# Altium schematic symbol library kmilo17pet-TI_MSP430.SchLib: 1463 symbols (part 33 of 130)
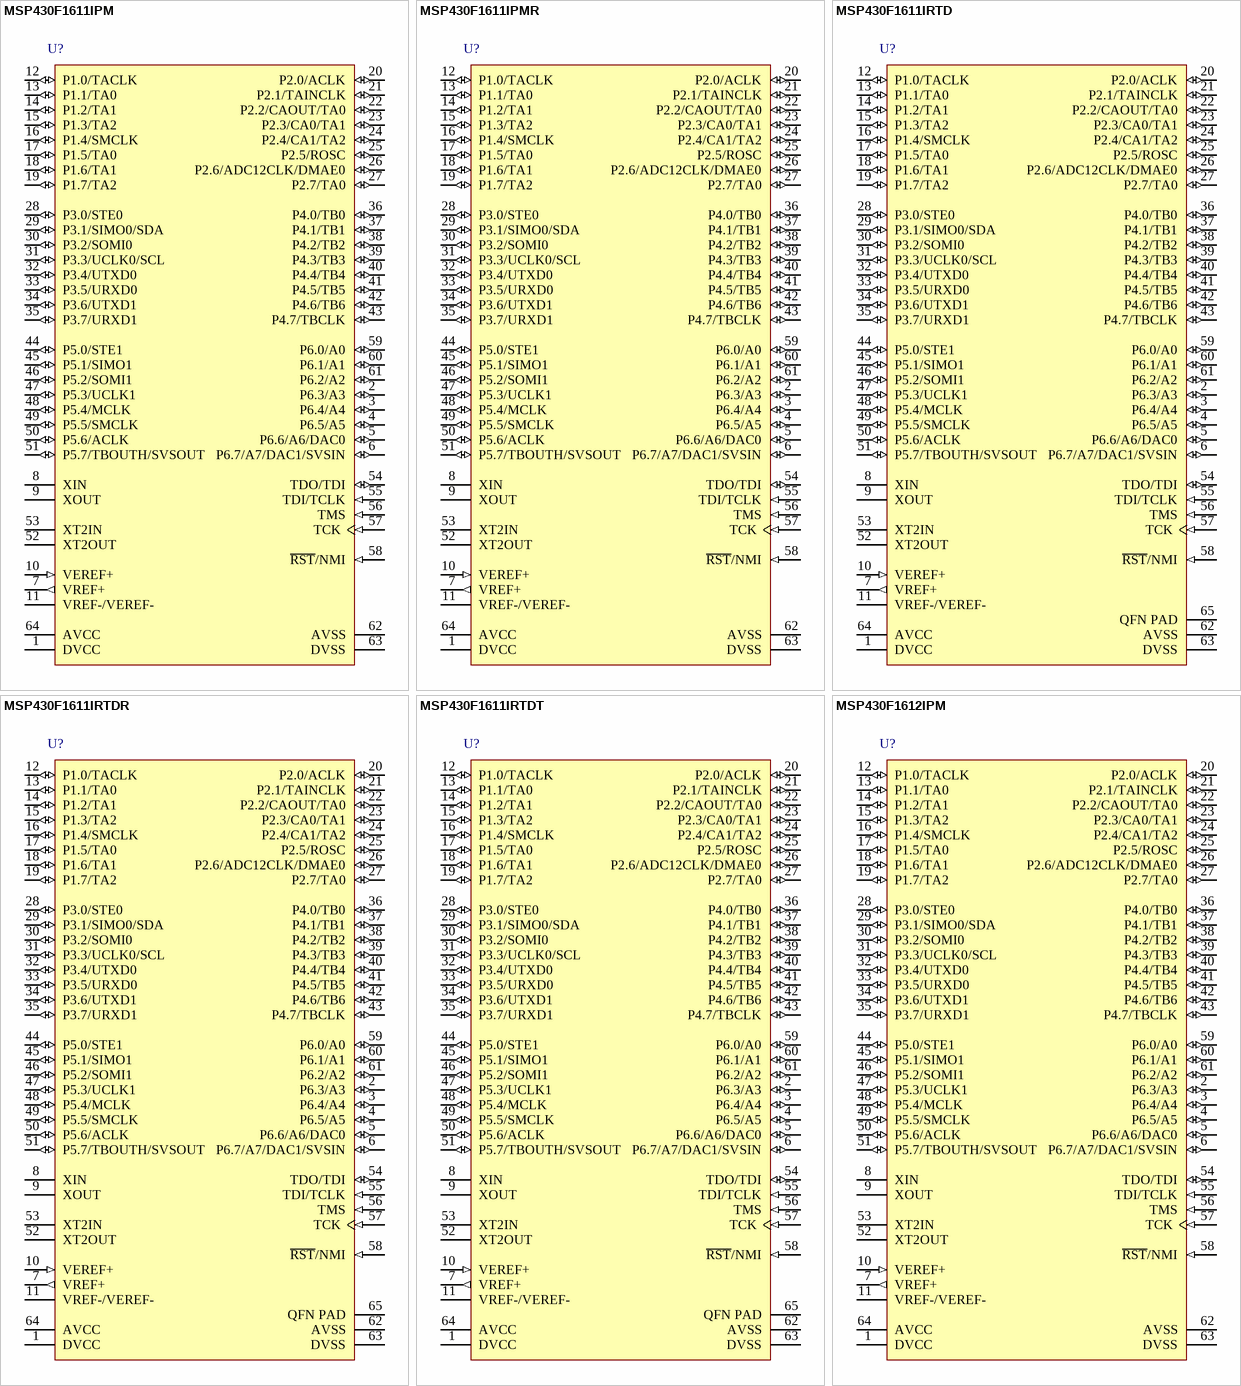
[diagram p253: symbols MSP430F1611IPM to MSP430F1612IPM]

## MSP430F1611IRTDR
designator U?
8 MHz Mixed Signal Microcontroller with 48 KB Flash, 10240 B SRAM and 48 GPIOs, -40 to 85 degC, 64-pin QFN (RTD), Green (RoHS & no Sb/Br); Manufacturer: Texas Instruments; PartNumber: MSP430F1611IRTDR; ADC: 12-bit SAR; ADC Channels: 8; Brown Out Reset: Yes; DAC: 1; DMA: 3; Flash(KB): 48; Multiplier: 16x16; SRAM(B): 10240; SubFamily: 1 Series; Timers - 16-bit: 2; USART: 2 with I, 2C; DatasheetVersion: SLAS368G; PackageReference: RTD64; PackageDescription: 64-Pin Plastic Flat Pack, Body 9 x 9 mm, Pitch 0.5 mm; Supplier 1: Mouser; Supplier Part Number 1: N/A; Comparators: Yes; Eco-Plan: Green (RoHS & no Sb/Br); Frequency(MHz): 8; GPIO: 48; SVS: Yes; Temp Sensor: Yes; Watchdog: Yes; Mounting Technology: Surface Mount; ComponentLink1Description: Manufacturer URL; ComponentLink1URL: http://www.ti.com/; ComponentLink2Description: Datasheet; ComponentLink2URL: http://www.ti.com/general/docs/lit/getliterature.tsp?genericPartNumber=MSP430F1611&fileType=pdf; ComponentLink3Description: Package Specification; ComponentLink3URL: http://www.ti.com/lit/ds/symlink/msp430f1471.pdf
footprint TI-RTD64-4700X4700TP_N (QFN, 64-Leads, Body 9x9mm, Pitch 0.5mm, Thermal Pad 4.7x4.7mm, IPC Medium Density)
pins: 1 DVCC (power) "Digital supply voltage, positive terminal. Supplies all digital parts.", 2 P6.3/A3 (io), 3 P6.4/A4 (io), 4 P6.5/A5 (io), 5 P6.6/A6/DAC0 (io), 6 P6.7/A7/DAC1/SVSIN (io), 7 VREF+ (out) "Output of positive terminal of the reference voltage in the ADC12", 8 XIN "Input port for crystal oscillator XT1. Standard or watch crystals can be connected.", 9 XOUT "Output terminal of crystal oscillator XT1", 10 VEREF+ (in) "Input for an external reference voltage", 11 VREF-/VEREF-, 12 P1.0/TACLK (io), 13 P1.1/TA0 (io), 14 P1.2/TA1 (io), 15 P1.3/TA2 (io), 16 P1.4/SMCLK (io), 17 P1.5/TA0 (io), 18 P1.6/TA1 (io), 19 P1.7/TA2 (io), 20 P2.0/ACLK (io), 21 P2.1/TAINCLK (io), 22 P2.2/CAOUT/TA0 (io), 23 P2.3/CA0/TA1 (io), 24 P2.4/CA1/TA2 (io), 25 P2.5/ROSC (io), 26 P2.6/ADC12CLK/DMAE0 (io), 27 P2.7/TA0 (io), 28 P3.0/STE0 (io), 29 P3.1/SIMO0/SDA (io), 30 P3.2/SOMI0 (io), 31 P3.3/UCLK0/SCL (io), 32 P3.4/UTXD0 (io), 33 P3.5/URXD0 (io), 34 P3.6/UTXD1 (io), 35 P3.7/URXD1 (io), 36 P4.0/TB0 (io), 37 P4.1/TB1 (io), 38 P4.2/TB2 (io), 39 P4.3/TB3 (io), 40 P4.4/TB4 (io), 41 P4.5/TB5 (io), 42 P4.6/TB6 (io), 43 P4.7/TBCLK (io), 44 P5.0/STE1 (io), 45 P5.1/SIMO1 (io), 46 P5.2/SOMI1 (io), 47 P5.3/UCLK1 (io), 48 P5.4/MCLK (io), 49 P5.5/SMCLK (io), 50 P5.6/ACLK (io), 51 P5.7/TBOUTH/SVSOUT (io), 52 XT2OUT "Output terminal of crystal oscillator XT2", 53 XT2IN "Input port for crystal oscillator XT2. Only standard crystals can be connected.", 54 TDO/TDI (io), 55 TDI/TCLK (in), 56 TMS (in) "Test mode select. TMS is used as an input port for device programming and test.", 57 TCK (in) "Test clock. TCK is the clock input port for device programming test and bootstrap loader start", 58 ~{RST}/NMI (in), 59 P6.0/A0 (io), 60 P6.1/A1 (io), 61 P6.2/A2 (io), 62 AVSS (power) "Analog supply voltage, negative terminal. Supplies only the analog portion of ADC12 and DAC12.", 63 DVSS (power) "Digital supply voltage, negative terminal. Supplies all digital parts.", 64 AVCC (power) "Analog supply voltage, positive terminal. Supplies only the analog portion of ADC12 and DAC12", 65 QFN PAD (power) "QFN package pad connection to DVSS recommended (RTD package only)"

## MSP430F1611IRTDT
designator U?
8 MHz Mixed Signal Microcontroller with 48 KB Flash, 10240 B SRAM and 48 GPIOs, -40 to 85 degC, 64-pin QFN (RTD), Green (RoHS & no Sb/Br); Manufacturer: Texas Instruments; PartNumber: MSP430F1611IRTDT; ADC: 12-bit SAR; ADC Channels: 8; Brown Out Reset: Yes; DAC: 1; DMA: 3; Flash(KB): 48; Multiplier: 16x16; SRAM(B): 10240; SubFamily: 1 Series; Timers - 16-bit: 2; USART: 2 with I, 2C; DatasheetVersion: SLAS368G; PackageReference: RTD64; PackageDescription: 64-Pin Plastic Flat Pack, Body 9 x 9 mm, Pitch 0.5 mm; Supplier 1: Digi-Key; Supplier Part Number 1: MSP430F1611IRTDR-ND; Supplier 2: Mouser; Supplier Part Number 2: 595-MSP430F1611IRTDR; Comparators: Yes; Eco-Plan: Green (RoHS & no Sb/Br); Frequency(MHz): 8; GPIO: 48; SVS: Yes; Temp Sensor: Yes; Watchdog: Yes; Mounting Technology: Surface Mount; ComponentLink1Description: Manufacturer URL; ComponentLink1URL: http://www.ti.com/; ComponentLink2Description: Datasheet; ComponentLink2URL: http://www.ti.com/general/docs/lit/getliterature.tsp?genericPartNumber=MSP430F1611&fileType=pdf; ComponentLink3Description: Package Specification; ComponentLink3URL: http://www.ti.com/lit/ds/symlink/msp430f1471.pdf
footprint TI-RTD64-4700X4700TP_N (QFN, 64-Leads, Body 9x9mm, Pitch 0.5mm, Thermal Pad 4.7x4.7mm, IPC Medium Density)
pins: 1 DVCC (power) "Digital supply voltage, positive terminal. Supplies all digital parts.", 2 P6.3/A3 (io), 3 P6.4/A4 (io), 4 P6.5/A5 (io), 5 P6.6/A6/DAC0 (io), 6 P6.7/A7/DAC1/SVSIN (io), 7 VREF+ (out) "Output of positive terminal of the reference voltage in the ADC12", 8 XIN "Input port for crystal oscillator XT1. Standard or watch crystals can be connected.", 9 XOUT "Output terminal of crystal oscillator XT1", 10 VEREF+ (in) "Input for an external reference voltage", 11 VREF-/VEREF-, 12 P1.0/TACLK (io), 13 P1.1/TA0 (io), 14 P1.2/TA1 (io), 15 P1.3/TA2 (io), 16 P1.4/SMCLK (io), 17 P1.5/TA0 (io), 18 P1.6/TA1 (io), 19 P1.7/TA2 (io), 20 P2.0/ACLK (io), 21 P2.1/TAINCLK (io), 22 P2.2/CAOUT/TA0 (io), 23 P2.3/CA0/TA1 (io), 24 P2.4/CA1/TA2 (io), 25 P2.5/ROSC (io), 26 P2.6/ADC12CLK/DMAE0 (io), 27 P2.7/TA0 (io), 28 P3.0/STE0 (io), 29 P3.1/SIMO0/SDA (io), 30 P3.2/SOMI0 (io), 31 P3.3/UCLK0/SCL (io), 32 P3.4/UTXD0 (io), 33 P3.5/URXD0 (io), 34 P3.6/UTXD1 (io), 35 P3.7/URXD1 (io), 36 P4.0/TB0 (io), 37 P4.1/TB1 (io), 38 P4.2/TB2 (io), 39 P4.3/TB3 (io), 40 P4.4/TB4 (io), 41 P4.5/TB5 (io), 42 P4.6/TB6 (io), 43 P4.7/TBCLK (io), 44 P5.0/STE1 (io), 45 P5.1/SIMO1 (io), 46 P5.2/SOMI1 (io), 47 P5.3/UCLK1 (io), 48 P5.4/MCLK (io), 49 P5.5/SMCLK (io), 50 P5.6/ACLK (io), 51 P5.7/TBOUTH/SVSOUT (io), 52 XT2OUT "Output terminal of crystal oscillator XT2", 53 XT2IN "Input port for crystal oscillator XT2. Only standard crystals can be connected.", 54 TDO/TDI (io), 55 TDI/TCLK (in), 56 TMS (in) "Test mode select. TMS is used as an input port for device programming and test.", 57 TCK (in) "Test clock. TCK is the clock input port for device programming test and bootstrap loader start", 58 ~{RST}/NMI (in), 59 P6.0/A0 (io), 60 P6.1/A1 (io), 61 P6.2/A2 (io), 62 AVSS (power) "Analog supply voltage, negative terminal. Supplies only the analog portion of ADC12 and DAC12.", 63 DVSS (power) "Digital supply voltage, negative terminal. Supplies all digital parts.", 64 AVCC (power) "Analog supply voltage, positive terminal. Supplies only the analog portion of ADC12 and DAC12", 65 QFN PAD (power) "QFN package pad connection to DVSS recommended (RTD package only)"

## MSP430F1612IPM
designator U?
8 MHz Mixed Signal Microcontroller with 55 KB Flash, 5120 B SRAM and 48 GPIOs, -40 to 85 degC, 64-pin QFP (PM), Green (RoHS & no Sb/Br); Manufacturer: Texas Instruments; PartNumber: MSP430F1612IPM; ADC: 12-bit SAR; ADC Channels: 8; Brown Out Reset: Yes; DAC: 1; DMA: 3; Flash(KB): 55; GPIO: 48; Multiplier: 16x16; SRAM(B): 5120; SubFamily: 1 Series; Timers - 16-bit: 2; USART: 2 with I, 2C; DatasheetVersion: SLAS368G; PackageVersion: 4040152/C; PackageReference: PM64; PackageDescription: 64-Pin Plastic Quad Flat Pack, Body 10 x 10 mm, Pitch 0.5 mm; Supplier 1: Digi-Key; Supplier Part Number 1: 296-18102-2-ND; Supplier 2: Digi-Key; Supplier Part Number 2: 296-18102-1-ND; Supplier 3: Digi-Key; Supplier Part Number 3: 296-18102-6-ND; Supplier 4: Farnell; Supplier Part Number 4: 1537172; Supplier 5: Newark; Supplier Part Number 5: 37K0624; Supplier 6: Mouser; Supplier Part Number 6: 595-MSP430F1611IRTDT; Comparators: Yes; Eco-Plan: Green (RoHS & no Sb/Br); Frequency(MHz): 8; SVS: Yes; Temp Sensor: Yes; Watchdog: Yes; Mounting Technology: Surface Mount; Code_JEDEC: MS-026; ComponentLink1Description: Manufacturer URL; ComponentLink1URL: http://www.ti.com/; ComponentLink2Description: Datasheet; ComponentLink2URL: http://www.ti.com/general/docs/lit/getliterature.tsp?genericPartNumber=MSP430F1612&fileType=pdf; ComponentLink3Description: Package Specification; ComponentLink3URL: http://www.ti.com/lit/ml/mtqf008a/mtqf008a.pdf
footprint TI-PM64_N (QFP, 64-Leads, Body 10x10mm, Pitch 0.5mm, IPC Medium Density)
pins: 1 DVCC (power) "Digital supply voltage, positive terminal. Supplies all digital parts.", 2 P6.3/A3 (io), 3 P6.4/A4 (io), 4 P6.5/A5 (io), 5 P6.6/A6/DAC0 (io), 6 P6.7/A7/DAC1/SVSIN (io), 7 VREF+ (out) "Output of positive terminal of the reference voltage in the ADC12", 8 XIN "Input port for crystal oscillator XT1. Standard or watch crystals can be connected.", 9 XOUT "Output terminal of crystal oscillator XT1", 10 VEREF+ (in) "Input for an external reference voltage", 11 VREF-/VEREF-, 12 P1.0/TACLK (io), 13 P1.1/TA0 (io), 14 P1.2/TA1 (io), 15 P1.3/TA2 (io), 16 P1.4/SMCLK (io), 17 P1.5/TA0 (io), 18 P1.6/TA1 (io), 19 P1.7/TA2 (io), 20 P2.0/ACLK (io), 21 P2.1/TAINCLK (io), 22 P2.2/CAOUT/TA0 (io), 23 P2.3/CA0/TA1 (io), 24 P2.4/CA1/TA2 (io), 25 P2.5/ROSC (io), 26 P2.6/ADC12CLK/DMAE0 (io), 27 P2.7/TA0 (io), 28 P3.0/STE0 (io), 29 P3.1/SIMO0/SDA (io), 30 P3.2/SOMI0 (io), 31 P3.3/UCLK0/SCL (io), 32 P3.4/UTXD0 (io), 33 P3.5/URXD0 (io), 34 P3.6/UTXD1 (io), 35 P3.7/URXD1 (io), 36 P4.0/TB0 (io), 37 P4.1/TB1 (io), 38 P4.2/TB2 (io), 39 P4.3/TB3 (io), 40 P4.4/TB4 (io), 41 P4.5/TB5 (io), 42 P4.6/TB6 (io), 43 P4.7/TBCLK (io), 44 P5.0/STE1 (io), 45 P5.1/SIMO1 (io), 46 P5.2/SOMI1 (io), 47 P5.3/UCLK1 (io), 48 P5.4/MCLK (io), 49 P5.5/SMCLK (io), 50 P5.6/ACLK (io), 51 P5.7/TBOUTH/SVSOUT (io), 52 XT2OUT "Output terminal of crystal oscillator XT2", 53 XT2IN "Input port for crystal oscillator XT2. Only standard crystals can be connected.", 54 TDO/TDI (io), 55 TDI/TCLK (in), 56 TMS (in) "Test mode select. TMS is used as an input port for device programming and test.", 57 TCK (in) "Test clock. TCK is the clock input port for device programming test and bootstrap loader start", 58 ~{RST}/NMI (in), 59 P6.0/A0 (io), 60 P6.1/A1 (io), 61 P6.2/A2 (io), 62 AVSS (power) "Analog supply voltage, negative terminal. Supplies only the analog portion of ADC12 and DAC12.", 63 DVSS (power) "Digital supply voltage, negative terminal. Supplies all digital parts.", 64 AVCC (power) "Analog supply voltage, positive terminal. Supplies only the analog portion of ADC12 and DAC12"

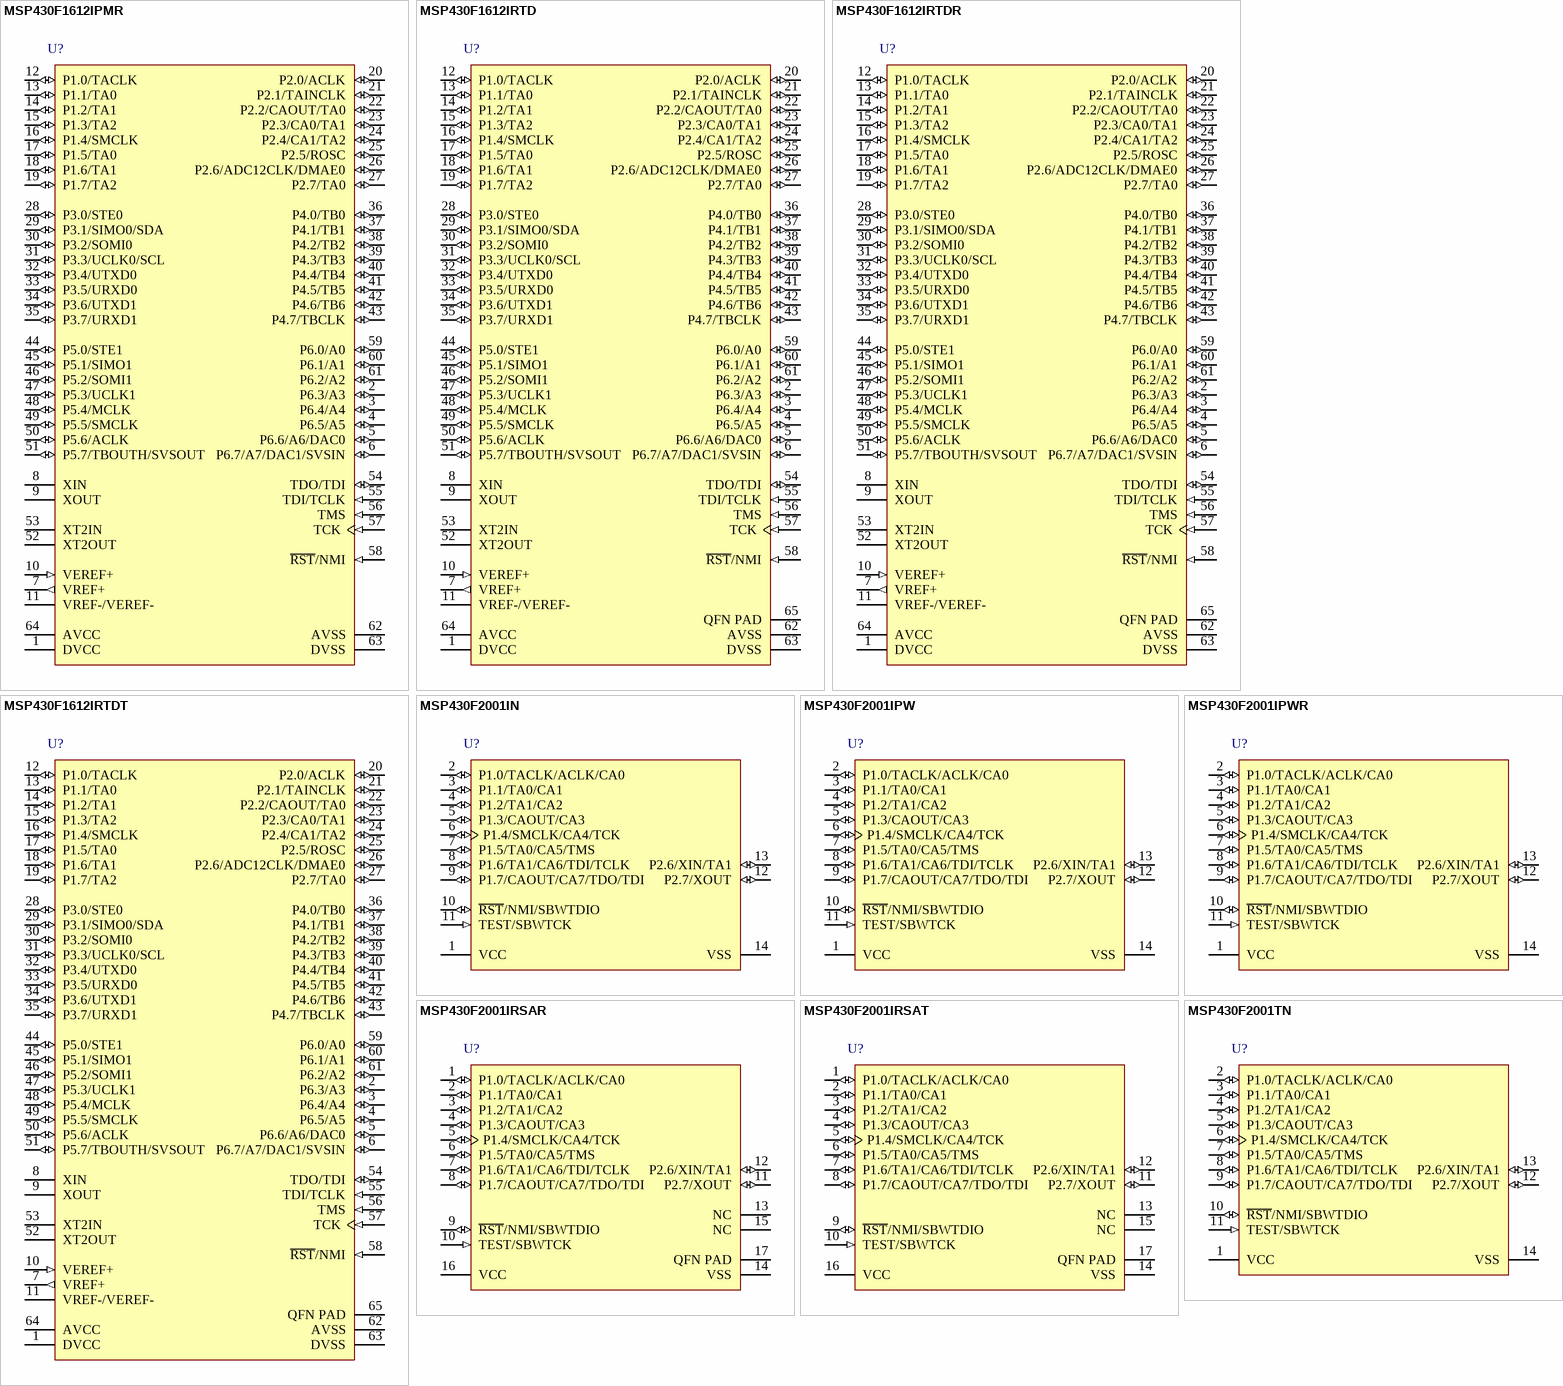
[diagram p47: symbols MSP430F1612IPMR to MSP430F2001TN]

## MSP430F1612IPMR
designator U?
8 MHz Mixed Signal Microcontroller with 55 KB Flash, 5120 B SRAM and 48 GPIOs, -40 to 85 degC, 64-pin QFP (PM), Green (RoHS & no Sb/Br); Manufacturer: Texas Instruments; PartNumber: MSP430F1612IPMR; ADC: 12-bit SAR; ADC Channels: 8; Brown Out Reset: Yes; DAC: 1; DMA: 3; Flash(KB): 55; GPIO: 48; Multiplier: 16x16; SRAM(B): 5120; SubFamily: 1 Series; Timers - 16-bit: 2; USART: 2 with I, 2C; DatasheetVersion: SLAS368G; PackageVersion: 4040152/C; PackageReference: PM64; PackageDescription: 64-Pin Plastic Quad Flat Pack, Body 10 x 10 mm, Pitch 0.5 mm; Supplier 1: Digi-Key; Supplier Part Number 1: 296-17885-ND; Supplier 2: Farnell; Supplier Part Number 2: 1172227; Supplier 3: Newark; Supplier Part Number 3: 19J7319; Supplier 4: Mouser; Supplier Part Number 4: 595-MSP430F1612IPM; Comparators: Yes; Eco-Plan: Green (RoHS & no Sb/Br); Frequency(MHz): 8; SVS: Yes; Temp Sensor: Yes; Watchdog: Yes; Mounting Technology: Surface Mount; Code_JEDEC: MS-026; ComponentLink1Description: Manufacturer URL; ComponentLink1URL: http://www.ti.com/; ComponentLink2Description: Datasheet; ComponentLink2URL: http://www.ti.com/general/docs/lit/getliterature.tsp?genericPartNumber=MSP430F1612&fileType=pdf; ComponentLink3Description: Package Specification; ComponentLink3URL: http://www.ti.com/lit/ml/mtqf008a/mtqf008a.pdf
footprint TI-PM64_N (QFP, 64-Leads, Body 10x10mm, Pitch 0.5mm, IPC Medium Density)
pins: 1 DVCC (power) "Digital supply voltage, positive terminal. Supplies all digital parts.", 2 P6.3/A3 (io), 3 P6.4/A4 (io), 4 P6.5/A5 (io), 5 P6.6/A6/DAC0 (io), 6 P6.7/A7/DAC1/SVSIN (io), 7 VREF+ (out) "Output of positive terminal of the reference voltage in the ADC12", 8 XIN "Input port for crystal oscillator XT1. Standard or watch crystals can be connected.", 9 XOUT "Output terminal of crystal oscillator XT1", 10 VEREF+ (in) "Input for an external reference voltage", 11 VREF-/VEREF-, 12 P1.0/TACLK (io), 13 P1.1/TA0 (io), 14 P1.2/TA1 (io), 15 P1.3/TA2 (io), 16 P1.4/SMCLK (io), 17 P1.5/TA0 (io), 18 P1.6/TA1 (io), 19 P1.7/TA2 (io), 20 P2.0/ACLK (io), 21 P2.1/TAINCLK (io), 22 P2.2/CAOUT/TA0 (io), 23 P2.3/CA0/TA1 (io), 24 P2.4/CA1/TA2 (io), 25 P2.5/ROSC (io), 26 P2.6/ADC12CLK/DMAE0 (io), 27 P2.7/TA0 (io), 28 P3.0/STE0 (io), 29 P3.1/SIMO0/SDA (io), 30 P3.2/SOMI0 (io), 31 P3.3/UCLK0/SCL (io), 32 P3.4/UTXD0 (io), 33 P3.5/URXD0 (io), 34 P3.6/UTXD1 (io), 35 P3.7/URXD1 (io), 36 P4.0/TB0 (io), 37 P4.1/TB1 (io), 38 P4.2/TB2 (io), 39 P4.3/TB3 (io), 40 P4.4/TB4 (io), 41 P4.5/TB5 (io), 42 P4.6/TB6 (io), 43 P4.7/TBCLK (io), 44 P5.0/STE1 (io), 45 P5.1/SIMO1 (io), 46 P5.2/SOMI1 (io), 47 P5.3/UCLK1 (io), 48 P5.4/MCLK (io), 49 P5.5/SMCLK (io), 50 P5.6/ACLK (io), 51 P5.7/TBOUTH/SVSOUT (io), 52 XT2OUT "Output terminal of crystal oscillator XT2", 53 XT2IN "Input port for crystal oscillator XT2. Only standard crystals can be connected.", 54 TDO/TDI (io), 55 TDI/TCLK (in), 56 TMS (in) "Test mode select. TMS is used as an input port for device programming and test.", 57 TCK (in) "Test clock. TCK is the clock input port for device programming test and bootstrap loader start", 58 ~{RST}/NMI (in), 59 P6.0/A0 (io), 60 P6.1/A1 (io), 61 P6.2/A2 (io), 62 AVSS (power) "Analog supply voltage, negative terminal. Supplies only the analog portion of ADC12 and DAC12.", 63 DVSS (power) "Digital supply voltage, negative terminal. Supplies all digital parts.", 64 AVCC (power) "Analog supply voltage, positive terminal. Supplies only the analog portion of ADC12 and DAC12"

## MSP430F1612IRTD
designator U?
8 MHz Mixed Signal Microcontroller with 55 KB Flash, 5120 B SRAM and 48 GPIOs, -40 to 85 degC, 64-pin QFN (RTD); Manufacturer: Texas Instruments; PartNumber: MSP430F1612IRTD; ADC: 12-bit SAR; ADC Channels: 8; Brown Out Reset: Yes; DAC: 1; DMA: 3; Flash(KB): 55; GPIO: 48; Multiplier: 16x16; SRAM(B): 5120; SubFamily: 1 Series; Timers - 16-bit: 2; USART: 2 with I, 2C; DatasheetVersion: SLAS368G; PackageReference: RTD64; PackageDescription: 64-Pin Plastic Flat Pack, Body 9 x 9 mm, Pitch 0.5 mm; Supplier 1: Digi-Key; Supplier Part Number 1: 296-31682-2-ND; Supplier 2: Digi-Key; Supplier Part Number 2: 296-31682-1-ND; Supplier 3: Digi-Key; Supplier Part Number 3: 296-31682-6-ND; Supplier 4: Newark; Supplier Part Number 4: 21J8847; Supplier 5: Mouser; Supplier Part Number 5: 595-MSP430F1612IPMR; Comparators: Yes; Frequency(MHz): 8; SVS: Yes; Temp Sensor: Yes; Watchdog: Yes; Mounting Technology: Surface Mount; ComponentLink1Description: Manufacturer URL; ComponentLink1URL: http://www.ti.com/; ComponentLink2Description: Datasheet; ComponentLink2URL: http://www.ti.com/general/docs/lit/getliterature.tsp?genericPartNumber=MSP430F1612&fileType=pdf; ComponentLink3Description: Package Specification; ComponentLink3URL: http://www.ti.com/lit/ds/symlink/msp430f1471.pdf
footprint TI-RTD64-4700X4700TP_N (QFN, 64-Leads, Body 9x9mm, Pitch 0.5mm, Thermal Pad 4.7x4.7mm, IPC Medium Density)
pins: 1 DVCC (power) "Digital supply voltage, positive terminal. Supplies all digital parts.", 2 P6.3/A3 (io), 3 P6.4/A4 (io), 4 P6.5/A5 (io), 5 P6.6/A6/DAC0 (io), 6 P6.7/A7/DAC1/SVSIN (io), 7 VREF+ (out) "Output of positive terminal of the reference voltage in the ADC12", 8 XIN "Input port for crystal oscillator XT1. Standard or watch crystals can be connected.", 9 XOUT "Output terminal of crystal oscillator XT1", 10 VEREF+ (in) "Input for an external reference voltage", 11 VREF-/VEREF-, 12 P1.0/TACLK (io), 13 P1.1/TA0 (io), 14 P1.2/TA1 (io), 15 P1.3/TA2 (io), 16 P1.4/SMCLK (io), 17 P1.5/TA0 (io), 18 P1.6/TA1 (io), 19 P1.7/TA2 (io), 20 P2.0/ACLK (io), 21 P2.1/TAINCLK (io), 22 P2.2/CAOUT/TA0 (io), 23 P2.3/CA0/TA1 (io), 24 P2.4/CA1/TA2 (io), 25 P2.5/ROSC (io), 26 P2.6/ADC12CLK/DMAE0 (io), 27 P2.7/TA0 (io), 28 P3.0/STE0 (io), 29 P3.1/SIMO0/SDA (io), 30 P3.2/SOMI0 (io), 31 P3.3/UCLK0/SCL (io), 32 P3.4/UTXD0 (io), 33 P3.5/URXD0 (io), 34 P3.6/UTXD1 (io), 35 P3.7/URXD1 (io), 36 P4.0/TB0 (io), 37 P4.1/TB1 (io), 38 P4.2/TB2 (io), 39 P4.3/TB3 (io), 40 P4.4/TB4 (io), 41 P4.5/TB5 (io), 42 P4.6/TB6 (io), 43 P4.7/TBCLK (io), 44 P5.0/STE1 (io), 45 P5.1/SIMO1 (io), 46 P5.2/SOMI1 (io), 47 P5.3/UCLK1 (io), 48 P5.4/MCLK (io), 49 P5.5/SMCLK (io), 50 P5.6/ACLK (io), 51 P5.7/TBOUTH/SVSOUT (io), 52 XT2OUT "Output terminal of crystal oscillator XT2", 53 XT2IN "Input port for crystal oscillator XT2. Only standard crystals can be connected.", 54 TDO/TDI (io), 55 TDI/TCLK (in), 56 TMS (in) "Test mode select. TMS is used as an input port for device programming and test.", 57 TCK (in) "Test clock. TCK is the clock input port for device programming test and bootstrap loader start", 58 ~{RST}/NMI (in), 59 P6.0/A0 (io), 60 P6.1/A1 (io), 61 P6.2/A2 (io), 62 AVSS (power) "Analog supply voltage, negative terminal. Supplies only the analog portion of ADC12 and DAC12.", 63 DVSS (power) "Digital supply voltage, negative terminal. Supplies all digital parts.", 64 AVCC (power) "Analog supply voltage, positive terminal. Supplies only the analog portion of ADC12 and DAC12", 65 QFN PAD (power) "QFN package pad connection to DVSS recommended (RTD package only)"

## MSP430F1612IRTDR
designator U?
8 MHz Mixed Signal Microcontroller with 55 KB Flash, 5120 B SRAM and 48 GPIOs, -40 to 85 degC, 64-pin QFN (RTD), Green (RoHS & no Sb/Br); Manufacturer: Texas Instruments; PartNumber: MSP430F1612IRTDR; ADC: 12-bit SAR; ADC Channels: 8; Brown Out Reset: Yes; DAC: 1; DMA: 3; Flash(KB): 55; GPIO: 48; Multiplier: 16x16; SRAM(B): 5120; SubFamily: 1 Series; Timers - 16-bit: 2; USART: 2 with I, 2C; DatasheetVersion: SLAS368G; PackageReference: RTD64; PackageDescription: 64-Pin Plastic Flat Pack, Body 9 x 9 mm, Pitch 0.5 mm; Supplier 1: Mouser; Supplier Part Number 1: N/A; Comparators: Yes; Eco-Plan: Green (RoHS & no Sb/Br); Frequency(MHz): 8; SVS: Yes; Temp Sensor: Yes; Watchdog: Yes; Mounting Technology: Surface Mount; ComponentLink1Description: Manufacturer URL; ComponentLink1URL: http://www.ti.com/; ComponentLink2Description: Datasheet; ComponentLink2URL: http://www.ti.com/general/docs/lit/getliterature.tsp?genericPartNumber=MSP430F1612&fileType=pdf; ComponentLink3Description: Package Specification; ComponentLink3URL: http://www.ti.com/lit/ds/symlink/msp430f1471.pdf
footprint TI-RTD64-4700X4700TP_N (QFN, 64-Leads, Body 9x9mm, Pitch 0.5mm, Thermal Pad 4.7x4.7mm, IPC Medium Density)
pins: 1 DVCC (power) "Digital supply voltage, positive terminal. Supplies all digital parts.", 2 P6.3/A3 (io), 3 P6.4/A4 (io), 4 P6.5/A5 (io), 5 P6.6/A6/DAC0 (io), 6 P6.7/A7/DAC1/SVSIN (io), 7 VREF+ (out) "Output of positive terminal of the reference voltage in the ADC12", 8 XIN "Input port for crystal oscillator XT1. Standard or watch crystals can be connected.", 9 XOUT "Output terminal of crystal oscillator XT1", 10 VEREF+ (in) "Input for an external reference voltage", 11 VREF-/VEREF-, 12 P1.0/TACLK (io), 13 P1.1/TA0 (io), 14 P1.2/TA1 (io), 15 P1.3/TA2 (io), 16 P1.4/SMCLK (io), 17 P1.5/TA0 (io), 18 P1.6/TA1 (io), 19 P1.7/TA2 (io), 20 P2.0/ACLK (io), 21 P2.1/TAINCLK (io), 22 P2.2/CAOUT/TA0 (io), 23 P2.3/CA0/TA1 (io), 24 P2.4/CA1/TA2 (io), 25 P2.5/ROSC (io), 26 P2.6/ADC12CLK/DMAE0 (io), 27 P2.7/TA0 (io), 28 P3.0/STE0 (io), 29 P3.1/SIMO0/SDA (io), 30 P3.2/SOMI0 (io), 31 P3.3/UCLK0/SCL (io), 32 P3.4/UTXD0 (io), 33 P3.5/URXD0 (io), 34 P3.6/UTXD1 (io), 35 P3.7/URXD1 (io), 36 P4.0/TB0 (io), 37 P4.1/TB1 (io), 38 P4.2/TB2 (io), 39 P4.3/TB3 (io), 40 P4.4/TB4 (io), 41 P4.5/TB5 (io), 42 P4.6/TB6 (io), 43 P4.7/TBCLK (io), 44 P5.0/STE1 (io), 45 P5.1/SIMO1 (io), 46 P5.2/SOMI1 (io), 47 P5.3/UCLK1 (io), 48 P5.4/MCLK (io), 49 P5.5/SMCLK (io), 50 P5.6/ACLK (io), 51 P5.7/TBOUTH/SVSOUT (io), 52 XT2OUT "Output terminal of crystal oscillator XT2", 53 XT2IN "Input port for crystal oscillator XT2. Only standard crystals can be connected.", 54 TDO/TDI (io), 55 TDI/TCLK (in), 56 TMS (in) "Test mode select. TMS is used as an input port for device programming and test.", 57 TCK (in) "Test clock. TCK is the clock input port for device programming test and bootstrap loader start", 58 ~{RST}/NMI (in), 59 P6.0/A0 (io), 60 P6.1/A1 (io), 61 P6.2/A2 (io), 62 AVSS (power) "Analog supply voltage, negative terminal. Supplies only the analog portion of ADC12 and DAC12.", 63 DVSS (power) "Digital supply voltage, negative terminal. Supplies all digital parts.", 64 AVCC (power) "Analog supply voltage, positive terminal. Supplies only the analog portion of ADC12 and DAC12", 65 QFN PAD (power) "QFN package pad connection to DVSS recommended (RTD package only)"

## MSP430F1612IRTDT
designator U?
8 MHz Mixed Signal Microcontroller with 55 KB Flash, 5120 B SRAM and 48 GPIOs, -40 to 85 degC, 64-pin QFN (RTD), Green (RoHS & no Sb/Br); Manufacturer: Texas Instruments; PartNumber: MSP430F1612IRTDT; ADC: 12-bit SAR; ADC Channels: 8; Brown Out Reset: Yes; DAC: 1; DMA: 3; Flash(KB): 55; GPIO: 48; Multiplier: 16x16; SRAM(B): 5120; SubFamily: 1 Series; Timers - 16-bit: 2; USART: 2 with I, 2C; DatasheetVersion: SLAS368G; PackageReference: RTD64; PackageDescription: 64-Pin Plastic Flat Pack, Body 9 x 9 mm, Pitch 0.5 mm; Supplier 1: Digi-Key; Supplier Part Number 1: MSP430F1612IRTDR-ND; Supplier 2: Newark; Supplier Part Number 2: 37K0625; Supplier 3: Mouser; Supplier Part Number 3: 595-MSP430F1612IRTDR; Comparators: Yes; Eco-Plan: Green (RoHS & no Sb/Br); Frequency(MHz): 8; SVS: Yes; Temp Sensor: Yes; Watchdog: Yes; Mounting Technology: Surface Mount; ComponentLink1Description: Manufacturer URL; ComponentLink1URL: http://www.ti.com/; ComponentLink2Description: Datasheet; ComponentLink2URL: http://www.ti.com/general/docs/lit/getliterature.tsp?genericPartNumber=MSP430F1612&fileType=pdf; ComponentLink3Description: Package Specification; ComponentLink3URL: http://www.ti.com/lit/ds/symlink/msp430f1471.pdf
footprint TI-RTD64-4700X4700TP_N (QFN, 64-Leads, Body 9x9mm, Pitch 0.5mm, Thermal Pad 4.7x4.7mm, IPC Medium Density)
pins: 1 DVCC (power) "Digital supply voltage, positive terminal. Supplies all digital parts.", 2 P6.3/A3 (io), 3 P6.4/A4 (io), 4 P6.5/A5 (io), 5 P6.6/A6/DAC0 (io), 6 P6.7/A7/DAC1/SVSIN (io), 7 VREF+ (out) "Output of positive terminal of the reference voltage in the ADC12", 8 XIN "Input port for crystal oscillator XT1. Standard or watch crystals can be connected.", 9 XOUT "Output terminal of crystal oscillator XT1", 10 VEREF+ (in) "Input for an external reference voltage", 11 VREF-/VEREF-, 12 P1.0/TACLK (io), 13 P1.1/TA0 (io), 14 P1.2/TA1 (io), 15 P1.3/TA2 (io), 16 P1.4/SMCLK (io), 17 P1.5/TA0 (io), 18 P1.6/TA1 (io), 19 P1.7/TA2 (io), 20 P2.0/ACLK (io), 21 P2.1/TAINCLK (io), 22 P2.2/CAOUT/TA0 (io), 23 P2.3/CA0/TA1 (io), 24 P2.4/CA1/TA2 (io), 25 P2.5/ROSC (io), 26 P2.6/ADC12CLK/DMAE0 (io), 27 P2.7/TA0 (io), 28 P3.0/STE0 (io), 29 P3.1/SIMO0/SDA (io), 30 P3.2/SOMI0 (io), 31 P3.3/UCLK0/SCL (io), 32 P3.4/UTXD0 (io), 33 P3.5/URXD0 (io), 34 P3.6/UTXD1 (io), 35 P3.7/URXD1 (io), 36 P4.0/TB0 (io), 37 P4.1/TB1 (io), 38 P4.2/TB2 (io), 39 P4.3/TB3 (io), 40 P4.4/TB4 (io), 41 P4.5/TB5 (io), 42 P4.6/TB6 (io), 43 P4.7/TBCLK (io), 44 P5.0/STE1 (io), 45 P5.1/SIMO1 (io), 46 P5.2/SOMI1 (io), 47 P5.3/UCLK1 (io), 48 P5.4/MCLK (io), 49 P5.5/SMCLK (io), 50 P5.6/ACLK (io), 51 P5.7/TBOUTH/SVSOUT (io), 52 XT2OUT "Output terminal of crystal oscillator XT2", 53 XT2IN "Input port for crystal oscillator XT2. Only standard crystals can be connected.", 54 TDO/TDI (io), 55 TDI/TCLK (in), 56 TMS (in) "Test mode select. TMS is used as an input port for device programming and test.", 57 TCK (in) "Test clock. TCK is the clock input port for device programming test and bootstrap loader start", 58 ~{RST}/NMI (in), 59 P6.0/A0 (io), 60 P6.1/A1 (io), 61 P6.2/A2 (io), 62 AVSS (power) "Analog supply voltage, negative terminal. Supplies only the analog portion of ADC12 and DAC12.", 63 DVSS (power) "Digital supply voltage, negative terminal. Supplies all digital parts.", 64 AVCC (power) "Analog supply voltage, positive terminal. Supplies only the analog portion of ADC12 and DAC12", 65 QFN PAD (power) "QFN package pad connection to DVSS recommended (RTD package only)"

## MSP430F2001IN
designator U?
16 MHz Mixed Signal Microcontroller with 1 KB Flash, 128 B SRAM and 10 GPIOs, -40 to 85 degC, 14-pin DIP (N), Pb-Free (RoHS); Manufacturer: Texas Instruments; PartNumber: MSP430F2001IN; ADC: Slope; Brown Out Reset: Yes; Flash(KB): 1; Frequency(MHz): 16; GPIO: 10; SRAM(B): 128; SubFamily: 2 Series, Extended Temp; DatasheetVersion: SLAS491H; PackageVersion: 4040049/E; PackageReference: N14; PackageDescription: 14-Pin Plastic In-Line, Body 19.305 x 6.35 mm, Pitch 2.54 mm; Supplier 1: Digi-Key; Supplier Part Number 1: 296-21320-2-ND; Supplier 2: Digi-Key; Supplier Part Number 2: 296-21320-1-ND; Supplier 3: Digi-Key; Supplier Part Number 3: 296-21320-6-ND; Supplier 4: Farnell; Supplier Part Number 4: 1537176; Supplier 5: Newark; Supplier Part Number 5: 18M2538; Supplier 6: Mouser; Supplier Part Number 6: 595-MSP430F169IRTDT; Comparators: Yes; Eco-Plan: Pb-Free (RoHS); Timers - 16-bit: 1; Watchdog: Yes; Mounting Technology: Through Hole; Code_JEDEC: MS-001; ComponentLink1Description: Manufacturer URL; ComponentLink1URL: http://www.ti.com/; ComponentLink2Description: Datasheet; ComponentLink2URL: http://www.ti.com/general/docs/lit/getliterature.tsp?genericPartNumber=MSP430F2001&fileType=pdf; ComponentLink3Description: Package Specification; ComponentLink3URL: http://www.ti.com/litv/pdf/mplc004a
footprint TI-N14 (DIP, 14-Leads, Body 19.305x6.35 mm, Pitch 2.54 mm)
pins: 1 VCC (power) "Supply voltage", 2 P1.0/TACLK/ACLK/CA0 (io), 3 P1.1/TA0/CA1 (io), 4 P1.2/TA1/CA2 (io), 5 P1.3/CAOUT/CA3 (io), 6 P1.4/SMCLK/CA4/TCK (io), 7 P1.5/TA0/CA5/TMS (io), 8 P1.6/TA1/CA6/TDI/TCLK (io), 9 P1.7/CAOUT/CA7/TDO/TDI (io), 10 ~{RST}/NMI/SBWTDIO (io), 11 TEST/SBWTCK (in), 12 P2.7/XOUT (io), 13 P2.6/XIN/TA1 (io), 14 VSS (power) "Ground reference"

## MSP430F2001IPW
designator U?
16 MHz Mixed Signal Microcontroller with 1 KB Flash, 128 B SRAM and 10 GPIOs, -40 to 85 degC, 14-pin SOP (PW), Green (RoHS & no Sb/Br); Manufacturer: Texas Instruments; PartNumber: MSP430F2001IPW; ADC: Slope; Brown Out Reset: Yes; Flash(KB): 1; Frequency(MHz): 16; GPIO: 10; SRAM(B): 128; SubFamily: 2 Series, Extended Temp; DatasheetVersion: SLAS491H; PackageVersion: 4040064-3/G; PackageReference: PW14; PackageDescription: 14-Pin Plastic Small Outline, Body 5 x 4.4 mm, 0.65 mm Pitch; Supplier 1: Digi-Key; Supplier Part Number 1: 296-19685-5-ND; Supplier 2: Farnell; Supplier Part Number 2: 1649393; Supplier 3: Newark; Supplier Part Number 3: 85K1053; Supplier 4: Mouser; Supplier Part Number 4: 595-MSP430F2001IN; Comparators: Yes; Eco-Plan: Green (RoHS & no Sb/Br); Timers - 16-bit: 1; Watchdog: Yes; Mounting Technology: Surface Mount; Code_JEDEC: MO-153; ComponentLink1Description: Manufacturer URL; ComponentLink1URL: http://www.ti.com/; ComponentLink2Description: Datasheet; ComponentLink2URL: http://www.ti.com/general/docs/lit/getliterature.tsp?genericPartNumber=MSP430F2001&fileType=pdf; ComponentLink3Description: Package Specification; ComponentLink3URL: http://www.ti.com/litv/pdf/mpds360
footprint TI-PW14_N (SOP, 14-Leads, Body 5x4.4mm, Pitch 0.65mm, IPC Medium Density)
pins: 1 VCC (power) "Supply voltage", 2 P1.0/TACLK/ACLK/CA0 (io), 3 P1.1/TA0/CA1 (io), 4 P1.2/TA1/CA2 (io), 5 P1.3/CAOUT/CA3 (io), 6 P1.4/SMCLK/CA4/TCK (io), 7 P1.5/TA0/CA5/TMS (io), 8 P1.6/TA1/CA6/TDI/TCLK (io), 9 P1.7/CAOUT/CA7/TDO/TDI (io), 10 ~{RST}/NMI/SBWTDIO (io), 11 TEST/SBWTCK (in), 12 P2.7/XOUT (io), 13 P2.6/XIN/TA1 (io), 14 VSS (power) "Ground reference"

## MSP430F2001IPWR
designator U?
16 MHz Mixed Signal Microcontroller with 1 KB Flash, 128 B SRAM and 10 GPIOs, -40 to 85 degC, 14-pin SOP (PW), Green (RoHS & no Sb/Br); Manufacturer: Texas Instruments; PartNumber: MSP430F2001IPWR; ADC: Slope; Brown Out Reset: Yes; Flash(KB): 1; Frequency(MHz): 16; GPIO: 10; SRAM(B): 128; SubFamily: 2 Series, Extended Temp; DatasheetVersion: SLAS491H; PackageVersion: 4040064-3/G; PackageReference: PW14; PackageDescription: 14-Pin Plastic Small Outline, Body 5 x 4.4 mm, 0.65 mm Pitch; Supplier 1: Digi-Key; Supplier Part Number 1: 296-26189-5-ND; Supplier 2: Farnell; Supplier Part Number 2: 1610171; Supplier 3: Newark; Supplier Part Number 3: 85K1054; Supplier 4: Mouser; Supplier Part Number 4: 595-MSP430F2001IPW; Comparators: Yes; Eco-Plan: Green (RoHS & no Sb/Br); Timers - 16-bit: 1; Watchdog: Yes; Mounting Technology: Surface Mount; Code_JEDEC: MO-153; ComponentLink1Description: Manufacturer URL; ComponentLink1URL: http://www.ti.com/; ComponentLink2Description: Datasheet; ComponentLink2URL: http://www.ti.com/general/docs/lit/getliterature.tsp?genericPartNumber=MSP430F2001&fileType=pdf; ComponentLink3Description: Package Specification; ComponentLink3URL: http://www.ti.com/litv/pdf/mpds360
footprint TI-PW14_N (SOP, 14-Leads, Body 5x4.4mm, Pitch 0.65mm, IPC Medium Density)
pins: 1 VCC (power) "Supply voltage", 2 P1.0/TACLK/ACLK/CA0 (io), 3 P1.1/TA0/CA1 (io), 4 P1.2/TA1/CA2 (io), 5 P1.3/CAOUT/CA3 (io), 6 P1.4/SMCLK/CA4/TCK (io), 7 P1.5/TA0/CA5/TMS (io), 8 P1.6/TA1/CA6/TDI/TCLK (io), 9 P1.7/CAOUT/CA7/TDO/TDI (io), 10 ~{RST}/NMI/SBWTDIO (io), 11 TEST/SBWTCK (in), 12 P2.7/XOUT (io), 13 P2.6/XIN/TA1 (io), 14 VSS (power) "Ground reference"

## MSP430F2001IRSAR
designator U?
16 MHz Mixed Signal Microcontroller with 1 KB Flash, 128 B SRAM and 10 GPIOs, -40 to 85 degC, 16-pin QFN (RSA), Green (RoHS & no Sb/Br); Manufacturer: Texas Instruments; PartNumber: MSP430F2001IRSAR; ADC: Slope; Brown Out Reset: Yes; Flash(KB): 1; Frequency(MHz): 16; GPIO: 10; SRAM(B): 128; SubFamily: 2 Series, Extended Temp; DatasheetVersion: SLAS491H; PackageVersion: 4205141/D; PackageReference: RSA16-2700X2700TP; PackageDescription: 16-Pin Plastic Flat Pack, Body 4.00 x 4.00 mm, Pitch 0.65 mm; Supplier 1: Digi-Key; Supplier Part Number 1: 296-19686-2-ND; Supplier 2: Digi-Key; Supplier Part Number 2: 296-19686-1-ND; Supplier 3: Digi-Key; Supplier Part Number 3: 296-19686-6-ND; Supplier 4: Farnell; Supplier Part Number 4: 1846683; Supplier 5: Newark; Supplier Part Number 5: 85K1055; Supplier 6: Mouser; Supplier Part Number 6: 595-MSP430F2001IPWR; Comparators: Yes; Eco-Plan: Green (RoHS & no Sb/Br); Timers - 16-bit: 1; Watchdog: Yes; Mounting Technology: Surface Mount; Code_JEDEC: MO-220; ComponentLink1Description: Manufacturer URL; ComponentLink1URL: http://www.ti.com/; ComponentLink2Description: Datasheet; ComponentLink2URL: http://www.ti.com/general/docs/lit/getliterature.tsp?genericPartNumber=MSP430F2001&fileType=pdf; ComponentLink3Description: Package Specification; ComponentLink3URL: http://www.ti.com/litv/pdf/mpqf145c
footprint TI-RSA16-2700X2700TP_N (QFN, 16-Leads, Body 4x4mm, Pitch 0.65mm, Thermal Pad 2.7x2.7mm, IPC Medium Density)
pins: 1 P1.0/TACLK/ACLK/CA0 (io), 2 P1.1/TA0/CA1 (io), 3 P1.2/TA1/CA2 (io), 4 P1.3/CAOUT/CA3 (io), 5 P1.4/SMCLK/CA4/TCK (io), 6 P1.5/TA0/CA5/TMS (io), 7 P1.6/TA1/CA6/TDI/TCLK (io), 8 P1.7/CAOUT/CA7/TDO/TDI (io), 9 ~{RST}/NMI/SBWTDIO (io), 10 TEST/SBWTCK (in), 11 P2.7/XOUT (io), 12 P2.6/XIN/TA1 (io), 13 NC "Not connected", 14 VSS (power) "Ground reference", 15 NC "Not connected", 16 VCC (power) "Supply voltage", 17 QFN PAD (power) "QFN package pad. Connection to VSS is recommended."

## MSP430F2001IRSAT
designator U?
16 MHz Mixed Signal Microcontroller with 1 KB Flash, 128 B SRAM and 10 GPIOs, -40 to 85 degC, 16-pin QFN (RSA), Green (RoHS & no Sb/Br); Manufacturer: Texas Instruments; PartNumber: MSP430F2001IRSAT; ADC: Slope; Brown Out Reset: Yes; Flash(KB): 1; Frequency(MHz): 16; GPIO: 10; SRAM(B): 128; SubFamily: 2 Series, Extended Temp; DatasheetVersion: SLAS491H; PackageVersion: 4205141/D; PackageReference: RSA16-2700X2700TP; PackageDescription: 16-Pin Plastic Flat Pack, Body 4.00 x 4.00 mm, Pitch 0.65 mm; Supplier 1: Digi-Key; Supplier Part Number 1: MSP430F2001IRSAR-ND; Supplier 2: Newark; Supplier Part Number 2: 88K5723; Supplier 3: Mouser; Supplier Part Number 3: 595-MSP430F2001IRSAR; Comparators: Yes; Eco-Plan: Green (RoHS & no Sb/Br); Timers - 16-bit: 1; Watchdog: Yes; Mounting Technology: Surface Mount; Code_JEDEC: MO-220; ComponentLink1Description: Manufacturer URL; ComponentLink1URL: http://www.ti.com/; ComponentLink2Description: Datasheet; ComponentLink2URL: http://www.ti.com/general/docs/lit/getliterature.tsp?genericPartNumber=MSP430F2001&fileType=pdf; ComponentLink3Description: Package Specification; ComponentLink3URL: http://www.ti.com/litv/pdf/mpqf145c
footprint TI-RSA16-2700X2700TP_N (QFN, 16-Leads, Body 4x4mm, Pitch 0.65mm, Thermal Pad 2.7x2.7mm, IPC Medium Density)
pins: 1 P1.0/TACLK/ACLK/CA0 (io), 2 P1.1/TA0/CA1 (io), 3 P1.2/TA1/CA2 (io), 4 P1.3/CAOUT/CA3 (io), 5 P1.4/SMCLK/CA4/TCK (io), 6 P1.5/TA0/CA5/TMS (io), 7 P1.6/TA1/CA6/TDI/TCLK (io), 8 P1.7/CAOUT/CA7/TDO/TDI (io), 9 ~{RST}/NMI/SBWTDIO (io), 10 TEST/SBWTCK (in), 11 P2.7/XOUT (io), 12 P2.6/XIN/TA1 (io), 13 NC "Not connected", 14 VSS (power) "Ground reference", 15 NC "Not connected", 16 VCC (power) "Supply voltage", 17 QFN PAD (power) "QFN package pad. Connection to VSS is recommended."

## MSP430F2001TN
designator U?
16 MHz Mixed Signal Microcontroller with 1 KB Flash, 128 B SRAM and 10 GPIOs, -40 to 105 degC, 14-pin DIP (N), Pb-Free (RoHS); Manufacturer: Texas Instruments; PartNumber: MSP430F2001TN; ADC: Slope; Brown Out Reset: Yes; Flash(KB): 1; Frequency(MHz): 16; GPIO: 10; SRAM(B): 128; SubFamily: 2 Series, Extended Temp; DatasheetVersion: SLAS491H; PackageVersion: 4040049/E; PackageReference: N14; PackageDescription: 14-Pin Plastic In-Line, Body 19.305 x 6.35 mm, Pitch 2.54 mm; Supplier 1: Digi-Key; Supplier Part Number 1: 296-19687-2-ND; Supplier 2: Digi-Key; Supplier Part Number 2: 296-19687-1-ND; Supplier 3: Digi-Key; Supplier Part Number 3: 296-19687-6-ND; Supplier 4: Farnell; Supplier Part Number 4: 1649394; Supplier 5: Newark; Supplier Part Number 5: 85K1056; Supplier 6: Mouser; Supplier Part Number 6: 595-MSP430F2001IRSAT; Comparators: Yes; Eco-Plan: Pb-Free (RoHS); Timers - 16-bit: 1; Watchdog: Yes; Mounting Technology: Through Hole; Code_JEDEC: MS-001; ComponentLink1Description: Manufacturer URL; ComponentLink1URL: http://www.ti.com/; ComponentLink2Description: Datasheet; ComponentLink2URL: http://www.ti.com/general/docs/lit/getliterature.tsp?genericPartNumber=MSP430F2001&fileType=pdf; ComponentLink3Description: Package Specification; ComponentLink3URL: http://www.ti.com/litv/pdf/mplc004a
footprint TI-N14 (DIP, 14-Leads, Body 19.305x6.35 mm, Pitch 2.54 mm)
pins: 1 VCC (power) "Supply voltage", 2 P1.0/TACLK/ACLK/CA0 (io), 3 P1.1/TA0/CA1 (io), 4 P1.2/TA1/CA2 (io), 5 P1.3/CAOUT/CA3 (io), 6 P1.4/SMCLK/CA4/TCK (io), 7 P1.5/TA0/CA5/TMS (io), 8 P1.6/TA1/CA6/TDI/TCLK (io), 9 P1.7/CAOUT/CA7/TDO/TDI (io), 10 ~{RST}/NMI/SBWTDIO (io), 11 TEST/SBWTCK (in), 12 P2.7/XOUT (io), 13 P2.6/XIN/TA1 (io), 14 VSS (power) "Ground reference"

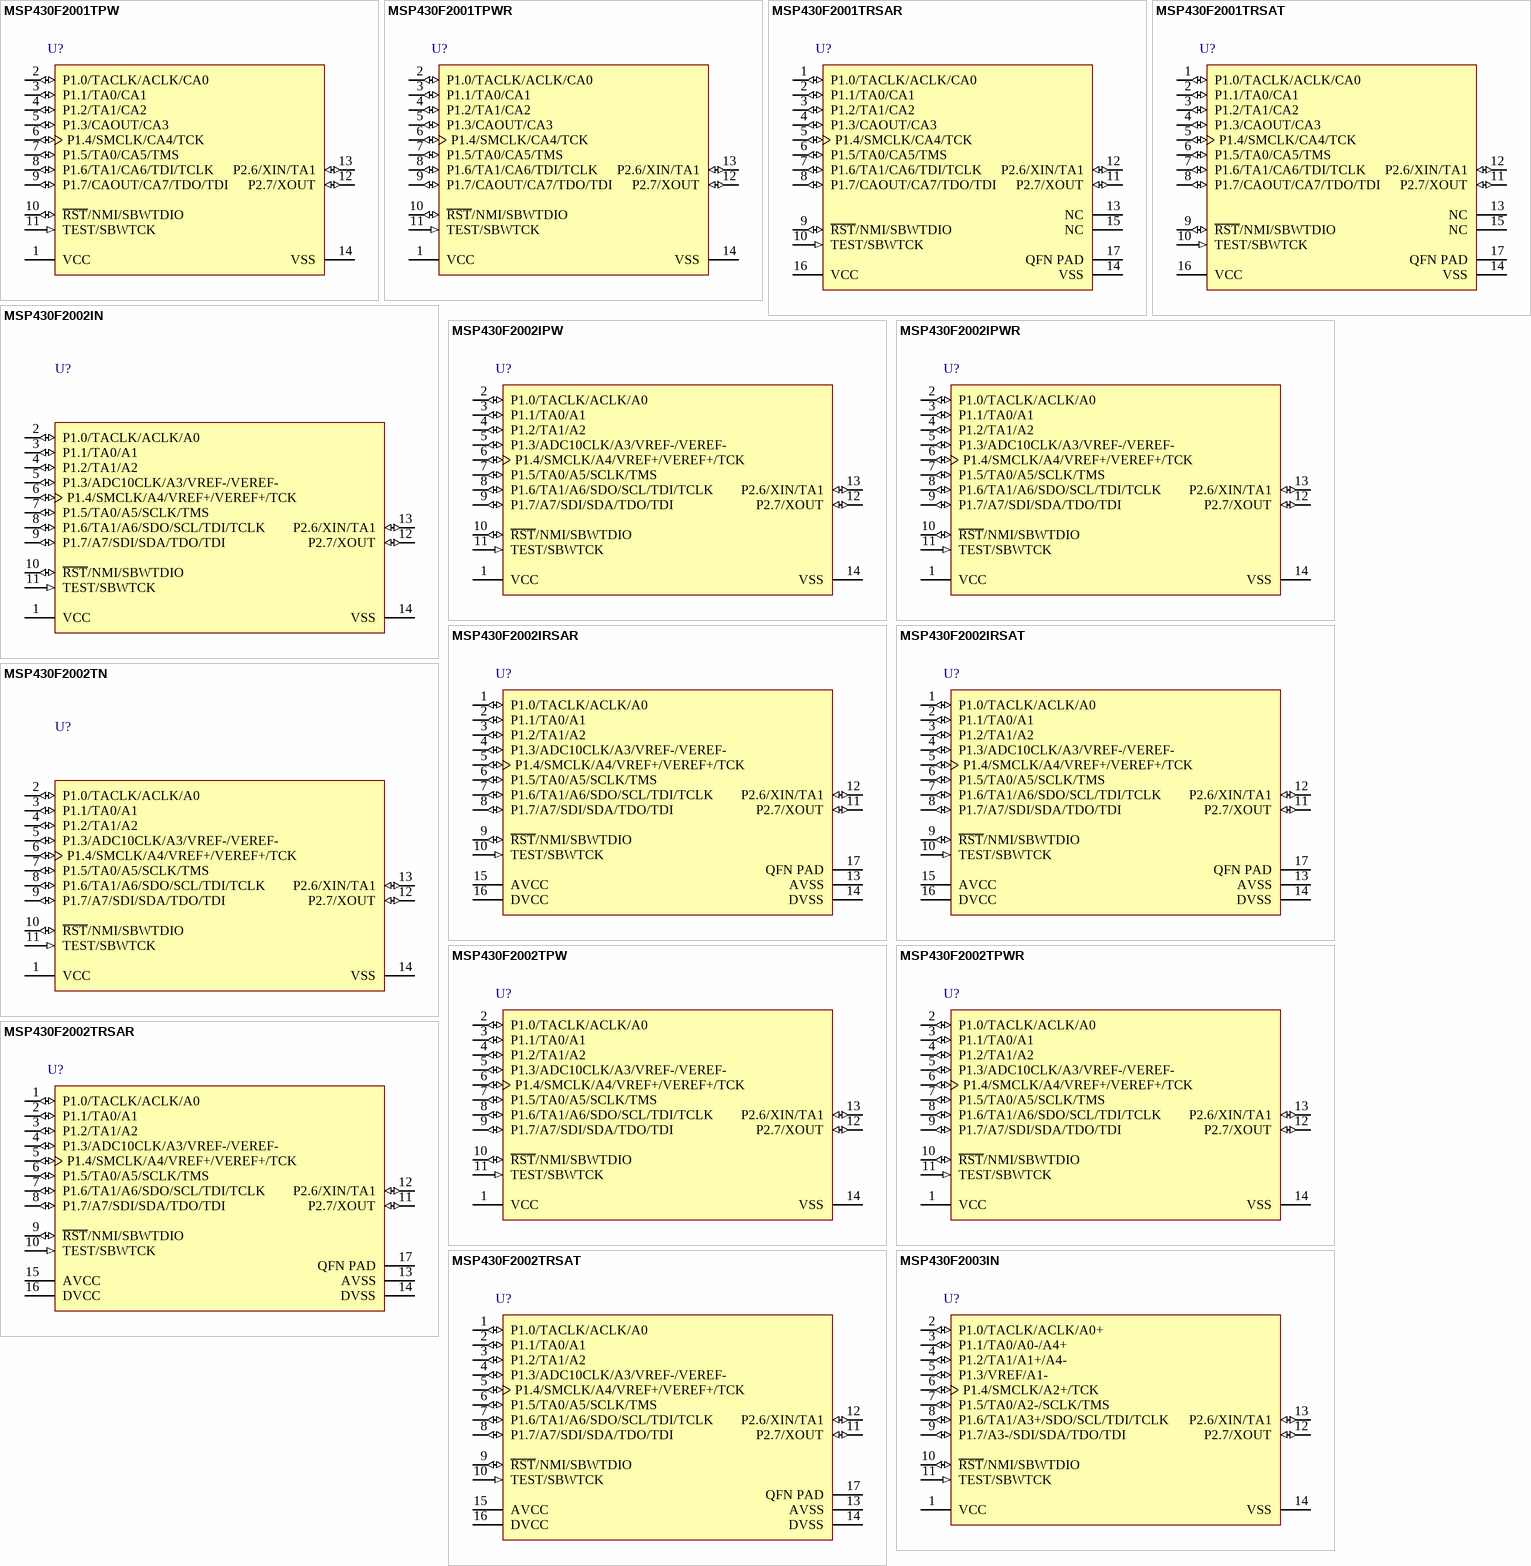
[diagram p48: symbols MSP430F2001TPW to MSP430F2003IN]

## MSP430F2001TPW
designator U?
16 MHz Mixed Signal Microcontroller with 1 KB Flash, 128 B SRAM and 10 GPIOs, -40 to 105 degC, 14-pin SOP (PW), Green (RoHS & no Sb/Br); Manufacturer: Texas Instruments; PartNumber: MSP430F2001TPW; ADC: Slope; Brown Out Reset: Yes; Flash(KB): 1; Frequency(MHz): 16; GPIO: 10; SRAM(B): 128; SubFamily: 2 Series, Extended Temp; DatasheetVersion: SLAS491H; PackageVersion: 4040064-3/G; PackageReference: PW14; PackageDescription: 14-Pin Plastic Small Outline, Body 5 x 4.4 mm, 0.65 mm Pitch; Supplier 1: Digi-Key; Supplier Part Number 1: 296-19688-5-ND; Supplier 2: Farnell; Supplier Part Number 2: 1753245; Supplier 3: Newark; Supplier Part Number 3: 85K1057; Supplier 4: Mouser; Supplier Part Number 4: 595-MSP430F2001TN; Comparators: Yes; Eco-Plan: Green (RoHS & no Sb/Br); Timers - 16-bit: 1; Watchdog: Yes; Mounting Technology: Surface Mount; Code_JEDEC: MO-153; ComponentLink1Description: Manufacturer URL; ComponentLink1URL: http://www.ti.com/; ComponentLink2Description: Datasheet; ComponentLink2URL: http://www.ti.com/general/docs/lit/getliterature.tsp?genericPartNumber=MSP430F2001&fileType=pdf; ComponentLink3Description: Package Specification; ComponentLink3URL: http://www.ti.com/litv/pdf/mpds360
footprint TI-PW14_N (SOP, 14-Leads, Body 5x4.4mm, Pitch 0.65mm, IPC Medium Density)
pins: 1 VCC (power) "Supply voltage", 2 P1.0/TACLK/ACLK/CA0 (io), 3 P1.1/TA0/CA1 (io), 4 P1.2/TA1/CA2 (io), 5 P1.3/CAOUT/CA3 (io), 6 P1.4/SMCLK/CA4/TCK (io), 7 P1.5/TA0/CA5/TMS (io), 8 P1.6/TA1/CA6/TDI/TCLK (io), 9 P1.7/CAOUT/CA7/TDO/TDI (io), 10 ~{RST}/NMI/SBWTDIO (io), 11 TEST/SBWTCK (in), 12 P2.7/XOUT (io), 13 P2.6/XIN/TA1 (io), 14 VSS (power) "Ground reference"

## MSP430F2001TPWR
designator U?
16 MHz Mixed Signal Microcontroller with 1 KB Flash, 128 B SRAM and 10 GPIOs, -40 to 105 degC, 14-pin SOP (PW), Green (RoHS & no Sb/Br); Manufacturer: Texas Instruments; PartNumber: MSP430F2001TPWR; ADC: Slope; Brown Out Reset: Yes; Flash(KB): 1; Frequency(MHz): 16; GPIO: 10; SRAM(B): 128; SubFamily: 2 Series, Extended Temp; DatasheetVersion: SLAS491H; PackageVersion: 4040064-3/G; PackageReference: PW14; PackageDescription: 14-Pin Plastic Small Outline, Body 5 x 4.4 mm, 0.65 mm Pitch; Supplier 1: Digi-Key; Supplier Part Number 1: 296-33413-5-ND; Supplier 2: Farnell; Supplier Part Number 2: 1610172; Supplier 3: Newark; Supplier Part Number 3: 88K5724; Supplier 4: Mouser; Supplier Part Number 4: 595-MSP430F2001TPW; Comparators: Yes; Eco-Plan: Green (RoHS & no Sb/Br); Timers - 16-bit: 1; Watchdog: Yes; Mounting Technology: Surface Mount; Code_JEDEC: MO-153; ComponentLink1Description: Manufacturer URL; ComponentLink1URL: http://www.ti.com/; ComponentLink2Description: Datasheet; ComponentLink2URL: http://www.ti.com/general/docs/lit/getliterature.tsp?genericPartNumber=MSP430F2001&fileType=pdf; ComponentLink3Description: Package Specification; ComponentLink3URL: http://www.ti.com/litv/pdf/mpds360
footprint TI-PW14_N (SOP, 14-Leads, Body 5x4.4mm, Pitch 0.65mm, IPC Medium Density)
pins: 1 VCC (power) "Supply voltage", 2 P1.0/TACLK/ACLK/CA0 (io), 3 P1.1/TA0/CA1 (io), 4 P1.2/TA1/CA2 (io), 5 P1.3/CAOUT/CA3 (io), 6 P1.4/SMCLK/CA4/TCK (io), 7 P1.5/TA0/CA5/TMS (io), 8 P1.6/TA1/CA6/TDI/TCLK (io), 9 P1.7/CAOUT/CA7/TDO/TDI (io), 10 ~{RST}/NMI/SBWTDIO (io), 11 TEST/SBWTCK (in), 12 P2.7/XOUT (io), 13 P2.6/XIN/TA1 (io), 14 VSS (power) "Ground reference"

## MSP430F2001TRSAR
designator U?
16 MHz Mixed Signal Microcontroller with 1 KB Flash, 128 B SRAM and 10 GPIOs, -40 to 105 degC, 16-pin QFN (RSA), Green (RoHS & no Sb/Br); Manufacturer: Texas Instruments; PartNumber: MSP430F2001TRSAR; ADC: Slope; Brown Out Reset: Yes; Flash(KB): 1; Frequency(MHz): 16; GPIO: 10; SRAM(B): 128; SubFamily: 2 Series, Extended Temp; DatasheetVersion: SLAS491H; PackageVersion: 4205141/D; PackageReference: RSA16-2700X2700TP; PackageDescription: 16-Pin Plastic Flat Pack, Body 4.00 x 4.00 mm, Pitch 0.65 mm; Supplier 1: Digi-Key; Supplier Part Number 1: 296-19689-2-ND; Supplier 2: Digi-Key; Supplier Part Number 2: 296-19689-1-ND; Supplier 3: Digi-Key; Supplier Part Number 3: 296-19689-6-ND; Supplier 4: Newark; Supplier Part Number 4: 85K1058; Supplier 5: Mouser; Supplier Part Number 5: 595-MSP430F2001TPWR; Comparators: Yes; Eco-Plan: Green (RoHS & no Sb/Br); Timers - 16-bit: 1; Watchdog: Yes; Mounting Technology: Surface Mount; Code_JEDEC: MO-220; ComponentLink1Description: Manufacturer URL; ComponentLink1URL: http://www.ti.com/; ComponentLink2Description: Datasheet; ComponentLink2URL: http://www.ti.com/general/docs/lit/getliterature.tsp?genericPartNumber=MSP430F2001&fileType=pdf; ComponentLink3Description: Package Specification; ComponentLink3URL: http://www.ti.com/litv/pdf/mpqf145c
footprint TI-RSA16-2700X2700TP_N (QFN, 16-Leads, Body 4x4mm, Pitch 0.65mm, Thermal Pad 2.7x2.7mm, IPC Medium Density)
pins: 1 P1.0/TACLK/ACLK/CA0 (io), 2 P1.1/TA0/CA1 (io), 3 P1.2/TA1/CA2 (io), 4 P1.3/CAOUT/CA3 (io), 5 P1.4/SMCLK/CA4/TCK (io), 6 P1.5/TA0/CA5/TMS (io), 7 P1.6/TA1/CA6/TDI/TCLK (io), 8 P1.7/CAOUT/CA7/TDO/TDI (io), 9 ~{RST}/NMI/SBWTDIO (io), 10 TEST/SBWTCK (in), 11 P2.7/XOUT (io), 12 P2.6/XIN/TA1 (io), 13 NC "Not connected", 14 VSS (power) "Ground reference", 15 NC "Not connected", 16 VCC (power) "Supply voltage", 17 QFN PAD (power) "QFN package pad. Connection to VSS is recommended."

## MSP430F2001TRSAT
designator U?
16 MHz Mixed Signal Microcontroller with 1 KB Flash, 128 B SRAM and 10 GPIOs, -40 to 105 degC, 16-pin QFN (RSA), Green (RoHS & no Sb/Br); Manufacturer: Texas Instruments; PartNumber: MSP430F2001TRSAT; ADC: Slope; Brown Out Reset: Yes; Flash(KB): 1; Frequency(MHz): 16; GPIO: 10; SRAM(B): 128; SubFamily: 2 Series, Extended Temp; DatasheetVersion: SLAS491H; PackageVersion: 4205141/D; PackageReference: RSA16-2700X2700TP; PackageDescription: 16-Pin Plastic Flat Pack, Body 4.00 x 4.00 mm, Pitch 0.65 mm; Supplier 1: Digi-Key; Supplier Part Number 1: MSP430F2001TRSAR-ND; Supplier 2: Newark; Supplier Part Number 2: 88K5725; Supplier 3: Mouser; Supplier Part Number 3: 595-MSP430F2001TRSAR; Comparators: Yes; Eco-Plan: Green (RoHS & no Sb/Br); Timers - 16-bit: 1; Watchdog: Yes; Mounting Technology: Surface Mount; Code_JEDEC: MO-220; ComponentLink1Description: Manufacturer URL; ComponentLink1URL: http://www.ti.com/; ComponentLink2Description: Datasheet; ComponentLink2URL: http://www.ti.com/general/docs/lit/getliterature.tsp?genericPartNumber=MSP430F2001&fileType=pdf; ComponentLink3Description: Package Specification; ComponentLink3URL: http://www.ti.com/litv/pdf/mpqf145c
footprint TI-RSA16-2700X2700TP_N (QFN, 16-Leads, Body 4x4mm, Pitch 0.65mm, Thermal Pad 2.7x2.7mm, IPC Medium Density)
pins: 1 P1.0/TACLK/ACLK/CA0 (io), 2 P1.1/TA0/CA1 (io), 3 P1.2/TA1/CA2 (io), 4 P1.3/CAOUT/CA3 (io), 5 P1.4/SMCLK/CA4/TCK (io), 6 P1.5/TA0/CA5/TMS (io), 7 P1.6/TA1/CA6/TDI/TCLK (io), 8 P1.7/CAOUT/CA7/TDO/TDI (io), 9 ~{RST}/NMI/SBWTDIO (io), 10 TEST/SBWTCK (in), 11 P2.7/XOUT (io), 12 P2.6/XIN/TA1 (io), 13 NC "Not connected", 14 VSS (power) "Ground reference", 15 NC "Not connected", 16 VCC (power) "Supply voltage", 17 QFN PAD (power) "QFN package pad. Connection to VSS is recommended."

## MSP430F2002IN
designator U?
16 MHz Mixed Signal Microcontroller with 1 KB Flash, 128 B SRAM and 10 GPIOs, -40 to 85 degC, 14-pin DIP (N), Pb-Free (RoHS); Manufacturer: Texas Instruments; PartNumber: MSP430F2002IN; ADC: 10-bit SAR; ADC Channels: 8; Brown Out Reset: Yes; Flash(KB): 1; Frequency(MHz): 16; GPIO: 10; SRAM(B): 128; SubFamily: 2 Series, Extended Temp; DatasheetVersion: SLAS491H; PackageVersion: 4040049/E; PackageReference: N14; PackageDescription: 14-Pin Plastic In-Line, Body 19.305 x 6.35 mm, Pitch 2.54 mm; Supplier 1: Digi-Key; Supplier Part Number 1: 296-19690-2-ND; Supplier 2: Digi-Key; Supplier Part Number 2: 296-19690-1-ND; Supplier 3: Digi-Key; Supplier Part Number 3: 296-19690-6-ND; Supplier 4: Farnell; Supplier Part Number 4: 1610173; Supplier 5: Mouser; Supplier Part Number 5: 595-MSP430F2001TRSAT; Eco-Plan: Pb-Free (RoHS); Temp Sensor: Yes; Timers - 16-bit: 1; Watchdog: Yes; Mounting Technology: Through Hole; Code_JEDEC: MS-001; ComponentLink1Description: Manufacturer URL; ComponentLink1URL: http://www.ti.com/; ComponentLink2Description: Datasheet; ComponentLink2URL: http://www.ti.com/general/docs/lit/getliterature.tsp?genericPartNumber=MSP430F2002&fileType=pdf; ComponentLink3Description: Package Specification; ComponentLink3URL: http://www.ti.com/litv/pdf/mplc004a
footprint TI-N14 (DIP, 14-Leads, Body 19.305x6.35 mm, Pitch 2.54 mm)
pins: 1 VCC (power) "Supply voltage.", 2 P1.0/TACLK/ACLK/A0 (io), 3 P1.1/TA0/A1 (io), 4 P1.2/TA1/A2 (io), 5 P1.3/ADC10CLK/A3/VREF-/VEREF- (io), 6 P1.4/SMCLK/A4/VREF+/VEREF+/TCK (io), 7 P1.5/TA0/A5/SCLK/TMS (io), 8 P1.6/TA1/A6/SDO/SCL/TDI/TCLK (io), 9 P1.7/A7/SDI/SDA/TDO/TDI (io), 10 ~{RST}/NMI/SBWTDIO (io), 11 TEST/SBWTCK (in), 12 P2.7/XOUT (io), 13 P2.6/XIN/TA1 (io), 14 VSS (power) "Ground reference."

## MSP430F2002IPW
designator U?
16 MHz Mixed Signal Microcontroller with 1 KB Flash, 128 B SRAM and 10 GPIOs, -40 to 85 degC, 14-pin SOP (PW), Green (RoHS & no Sb/Br); Manufacturer: Texas Instruments; PartNumber: MSP430F2002IPW; ADC: 10-bit SAR; ADC Channels: 8; Brown Out Reset: Yes; Flash(KB): 1; Frequency(MHz): 16; GPIO: 10; SRAM(B): 128; SubFamily: 2 Series, Extended Temp; DatasheetVersion: SLAS491H; PackageVersion: 4040064-3/G; PackageReference: PW14; PackageDescription: 14-Pin Plastic Small Outline, Body 5 x 4.4 mm, 0.65 mm Pitch; Supplier 1: Digi-Key; Supplier Part Number 1: 296-19724-5-ND; Supplier 2: Farnell; Supplier Part Number 2: 1649396; Supplier 3: Newark; Supplier Part Number 3: 88K5726; Supplier 4: Mouser; Supplier Part Number 4: 595-MSP430F2002IN; Eco-Plan: Green (RoHS & no Sb/Br); Temp Sensor: Yes; Timers - 16-bit: 1; Watchdog: Yes; Mounting Technology: Surface Mount; Code_JEDEC: MO-153; ComponentLink1Description: Manufacturer URL; ComponentLink1URL: http://www.ti.com/; ComponentLink2Description: Datasheet; ComponentLink2URL: http://www.ti.com/general/docs/lit/getliterature.tsp?genericPartNumber=MSP430F2002&fileType=pdf; ComponentLink3Description: Package Specification; ComponentLink3URL: http://www.ti.com/litv/pdf/mpds360
footprint TI-PW14_N (SOP, 14-Leads, Body 5x4.4mm, Pitch 0.65mm, IPC Medium Density)
pins: 1 VCC (power) "Supply voltage.", 2 P1.0/TACLK/ACLK/A0 (io), 3 P1.1/TA0/A1 (io), 4 P1.2/TA1/A2 (io), 5 P1.3/ADC10CLK/A3/VREF-/VEREF- (io), 6 P1.4/SMCLK/A4/VREF+/VEREF+/TCK (io), 7 P1.5/TA0/A5/SCLK/TMS (io), 8 P1.6/TA1/A6/SDO/SCL/TDI/TCLK (io), 9 P1.7/A7/SDI/SDA/TDO/TDI (io), 10 ~{RST}/NMI/SBWTDIO (io), 11 TEST/SBWTCK (in), 12 P2.7/XOUT (io), 13 P2.6/XIN/TA1 (io), 14 VSS (power) "Ground reference."

## MSP430F2002IPWR
designator U?
16 MHz Mixed Signal Microcontroller with 1 KB Flash, 128 B SRAM and 10 GPIOs, -40 to 85 degC, 14-pin SOP (PW), Green (RoHS & no Sb/Br); Manufacturer: Texas Instruments; PartNumber: MSP430F2002IPWR; ADC: 10-bit SAR; ADC Channels: 8; Brown Out Reset: Yes; Flash(KB): 1; Frequency(MHz): 16; GPIO: 10; SRAM(B): 128; SubFamily: 2 Series, Extended Temp; DatasheetVersion: SLAS491H; PackageVersion: 4040064-3/G; PackageReference: PW14; PackageDescription: 14-Pin Plastic Small Outline, Body 5 x 4.4 mm, 0.65 mm Pitch; Supplier 1: Digi-Key; Supplier Part Number 1: 296-26190-5-ND; Supplier 2: Farnell; Supplier Part Number 2: 1649397; Supplier 3: Newark; Supplier Part Number 3: 99K3816; Supplier 4: Mouser; Supplier Part Number 4: 595-MSP430F2002IPW; Eco-Plan: Green (RoHS & no Sb/Br); Temp Sensor: Yes; Timers - 16-bit: 1; Watchdog: Yes; Mounting Technology: Surface Mount; Code_JEDEC: MO-153; ComponentLink1Description: Manufacturer URL; ComponentLink1URL: http://www.ti.com/; ComponentLink2Description: Datasheet; ComponentLink2URL: http://www.ti.com/general/docs/lit/getliterature.tsp?genericPartNumber=MSP430F2002&fileType=pdf; ComponentLink3Description: Package Specification; ComponentLink3URL: http://www.ti.com/litv/pdf/mpds360
footprint TI-PW14_N (SOP, 14-Leads, Body 5x4.4mm, Pitch 0.65mm, IPC Medium Density)
pins: 1 VCC (power) "Supply voltage.", 2 P1.0/TACLK/ACLK/A0 (io), 3 P1.1/TA0/A1 (io), 4 P1.2/TA1/A2 (io), 5 P1.3/ADC10CLK/A3/VREF-/VEREF- (io), 6 P1.4/SMCLK/A4/VREF+/VEREF+/TCK (io), 7 P1.5/TA0/A5/SCLK/TMS (io), 8 P1.6/TA1/A6/SDO/SCL/TDI/TCLK (io), 9 P1.7/A7/SDI/SDA/TDO/TDI (io), 10 ~{RST}/NMI/SBWTDIO (io), 11 TEST/SBWTCK (in), 12 P2.7/XOUT (io), 13 P2.6/XIN/TA1 (io), 14 VSS (power) "Ground reference."

## MSP430F2002IRSAR
designator U?
16 MHz Mixed Signal Microcontroller with 1 KB Flash, 128 B SRAM and 10 GPIOs, -40 to 85 degC, 16-pin QFN (RSA), Green (RoHS & no Sb/Br); Manufacturer: Texas Instruments; PartNumber: MSP430F2002IRSAR; ADC: 10-bit SAR; ADC Channels: 8; Brown Out Reset: Yes; Flash(KB): 1; Frequency(MHz): 16; GPIO: 10; SRAM(B): 128; SubFamily: 2 Series, Extended Temp; DatasheetVersion: SLAS491H; PackageVersion: 4205141/D; PackageReference: RSA16-2700X2700TP; PackageDescription: 16-Pin Plastic Flat Pack, Body 4.00 x 4.00 mm, Pitch 0.65 mm; Supplier 1: Digi-Key; Supplier Part Number 1: 296-19725-2-ND; Supplier 2: Digi-Key; Supplier Part Number 2: 296-19725-1-ND; Supplier 3: Digi-Key; Supplier Part Number 3: 296-19725-6-ND; Supplier 4: Newark; Supplier Part Number 4: 88K5727; Supplier 5: Mouser; Supplier Part Number 5: 595-MSP430F2002IPWR; Eco-Plan: Green (RoHS & no Sb/Br); Temp Sensor: Yes; Timers - 16-bit: 1; Watchdog: Yes; Mounting Technology: Surface Mount; Code_JEDEC: MO-220; ComponentLink1Description: Manufacturer URL; ComponentLink1URL: http://www.ti.com/; ComponentLink2Description: Datasheet; ComponentLink2URL: http://www.ti.com/general/docs/lit/getliterature.tsp?genericPartNumber=MSP430F2002&fileType=pdf; ComponentLink3Description: Package Specification; ComponentLink3URL: http://www.ti.com/litv/pdf/mpqf145c
footprint TI-RSA16-2700X2700TP_N (QFN, 16-Leads, Body 4x4mm, Pitch 0.65mm, Thermal Pad 2.7x2.7mm, IPC Medium Density)
pins: 1 P1.0/TACLK/ACLK/A0 (io), 2 P1.1/TA0/A1 (io), 3 P1.2/TA1/A2 (io), 4 P1.3/ADC10CLK/A3/VREF-/VEREF- (io), 5 P1.4/SMCLK/A4/VREF+/VEREF+/TCK (io), 6 P1.5/TA0/A5/SCLK/TMS (io), 7 P1.6/TA1/A6/SDO/SCL/TDI/TCLK (io), 8 P1.7/A7/SDI/SDA/TDO/TDI (io), 9 ~{RST}/NMI/SBWTDIO (io), 10 TEST/SBWTCK (in), 11 P2.7/XOUT (io), 12 P2.6/XIN/TA1 (io), 13 AVSS (power) "Analog ground reference", 14 DVSS (power) "Digital ground reference", 15 AVCC (power) "Analog supply voltage", 16 DVCC (power) "Digital supply voltage", 17 QFN PAD (power) "QFN package pad. Connection to VSS is recommended."